# Altium schematic symbol library NUP2105LT1.SchLib: 1 symbol
Pins are listed as number, name and electrical type; pins without a type are passive.

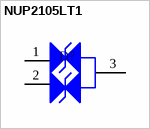
[diagram p0: symbol NUP2105LT1]

## NUP2105LT1
designator D?
pins: 1 K, 2 K, 3 K